# Altium footprint library INDUCTORS.PCBLIB: 54 footprints (part 1 of 4)
Each footprint in its own frame and in the unit in brackets; x right, y up, seen from the top. Pads: shape width x height; smd on the part's side, far side on the other; paste and mask are expansions set on the pad; w line width, h text height; cw(c..) or ccw(c..) is an arc to the next point about the centre after c.
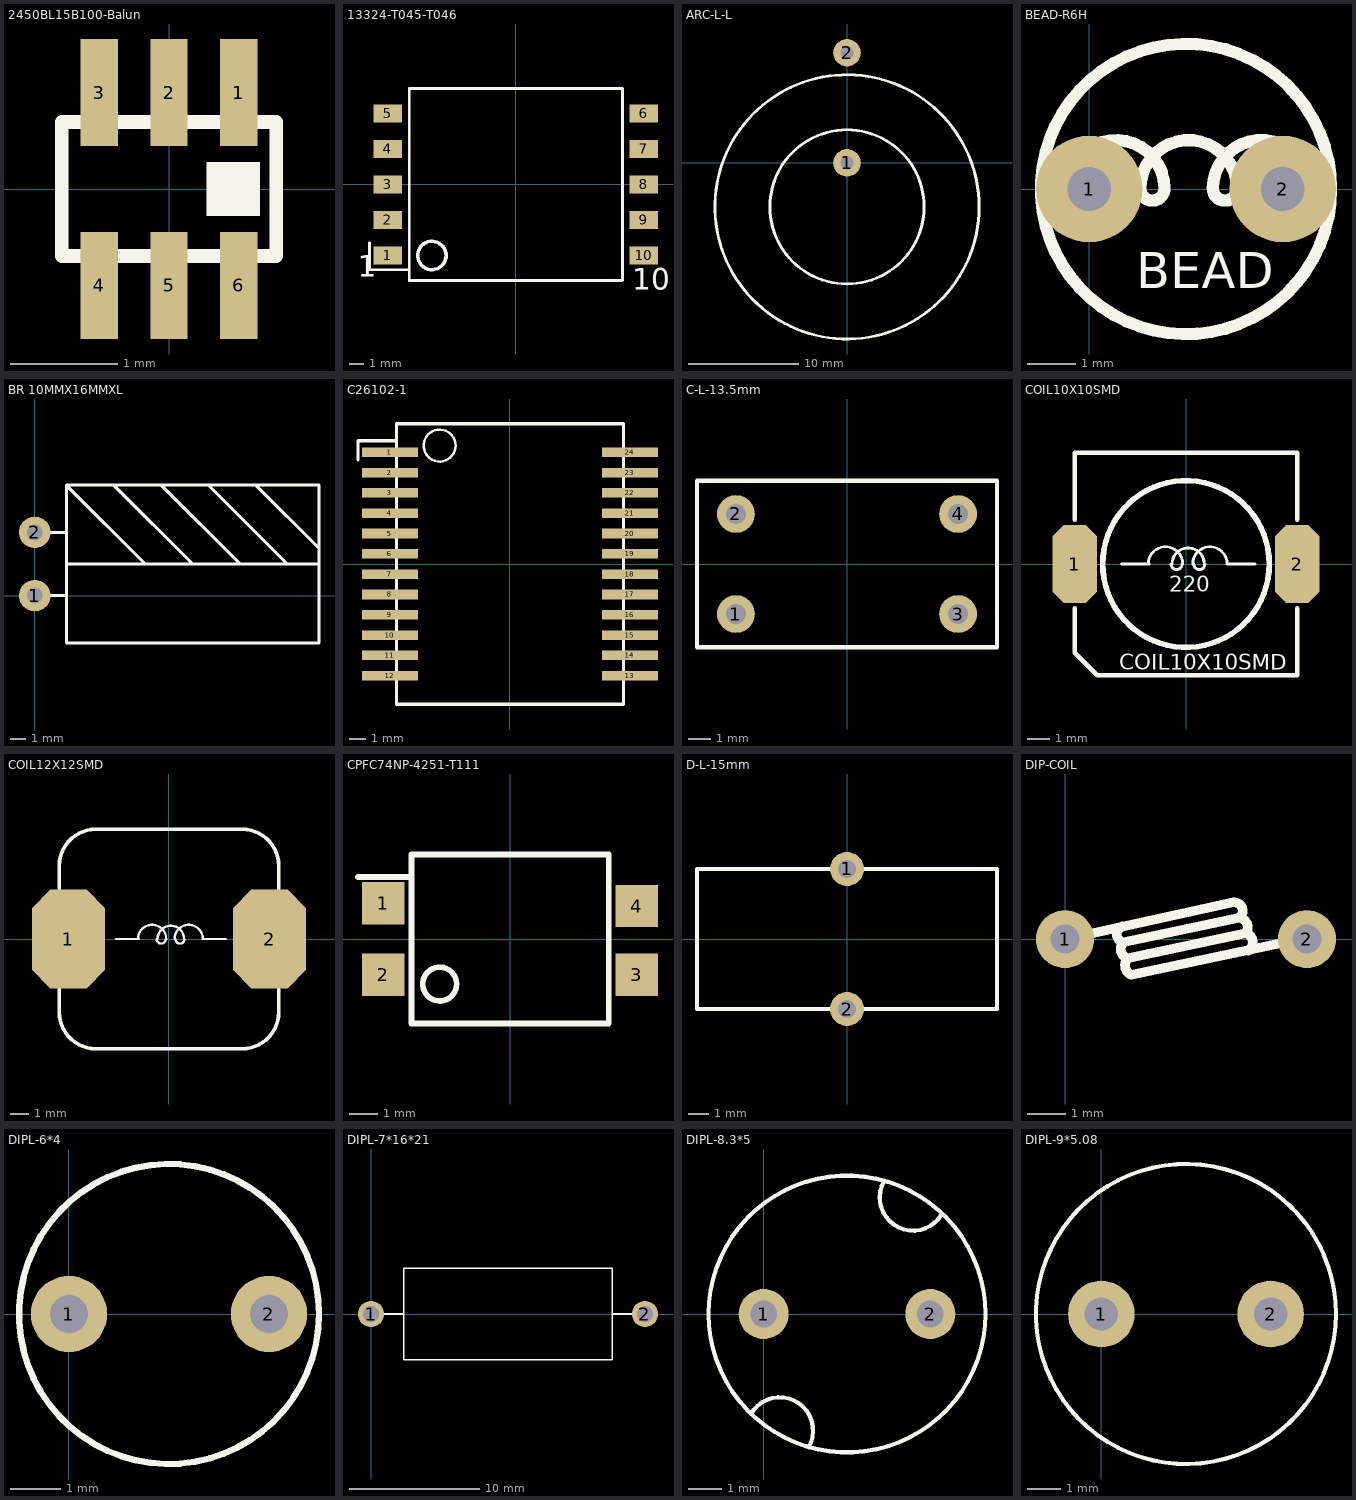
[diagram p0: the footprints below, top view; thin cyan lines are the x and y axes]

## 2450BL15B100-Balun [mm] "2450BL15B100-Balun"
pads (6):
  rect 0.35x1 smd: 1(0.65,0.9) 2(0,0.9) 3(-0.65,0.9) 4(-0.65,-0.9) 5(0,-0.9) 6(0.65,-0.9)
TopOverlay:
  rectangle: 0.35,-0.25 0.85,0.25
  lines w0.127: -1,-0.625 1,-0.625 1,0.625 -1,0.625 -1,-0.625

## 13324-T045-T046 [mm]
pads (10):
  rect 2x1.27 smd: 1(-9,-5) 2(-9,-2.5) 3(-9,0) 4(-9,2.5) 5(-9,5) 6(9,5) 7(9,2.5) 8(9,0) 9(9,-2.5) 10(9,-5)
TopOverlay:
  circle w0.254: c-5.9,-5 r1
  lines w0.2: -10.3,-4.1 -10.3,-6 -7.5,-6 ; -7.5,-6.75 -7.5,6.75 7.5,6.75 7.5,-6.75 -7.5,-6.75
  text "1" at -11.1,-6.5 h1.52
  text "10" at 8.2,-7.4 h1.52

## ARC-L-L [mm]
pads (2):
  round 2.5 hole 1.2: 1(0,0) 2(0,10)
TopOverlay:
  circle w0.254: c0,-4 r12
  circle w0.254: c0,-4 r7

## BEAD-R6H [mm]
pads (2):
  round 2.2 hole 0.9: 1(0,0) 2(4,0)
TopOverlay:
  circle w0.25: c2,0 r3
  lines w0.254: -0.041,0.814 cw(c0.555,0.011) 1.555,0.011 cw(c1.305,0.011) 1.055,0.011 cw(c2.055,0.011) 3.055,0.011 cw(c2.805,0.011) 2.555,0.011 cw(c3.555,0.011) 3.957,0.926
  text "BEAD" at 0.975,-2.05 h0.75

## BR 10MMX16MMXL [mm]
pads (2):
  round 2 hole 1: 1(0,0) 2(0,4)
TopOverlay:
  lines w0.203: 1,0 2,0 ; 1,4 2,4 ; 5,7 10,2 ; 7,2 2,7 ; 11,7 16,2 ; 13,2 8,7 ; 14,7 18,3 ; 18,2 2,2 ; 2,2 2,-3 18,-3 18,7 2,7 ; 2,2 2,7 ; 8,7 8,7

## C26102-1 [mm] "C26102-1"
pads (24):
  rect 3.5x0.6 smd: 1(-7.5,6.985) 2(-7.5,5.715) 3(-7.5,4.445) 4(-7.5,3.175) 5(-7.5,1.905) 6(-7.5,0.635) 7(-7.5,-0.635) 8(-7.5,-1.905) 9(-7.5,-3.175) 10(-7.5,-4.445) 11(-7.5,-5.715) 12(-7.5,-6.985) 13(7.5,-6.985) 14(7.5,-5.715) 15(7.5,-4.445) 16(7.5,-3.175) 17(7.5,-1.905) 18(7.5,-0.635) 19(7.5,0.635) 20(7.5,1.905) 21(7.5,3.175) 22(7.5,4.445) 23(7.5,5.715) 24(7.5,6.985)
TopOverlay:
  circle w0.15: c-4.4,7.4 r1
  lines w0.2: -9.5,6.5 -9.5,7.7 -7.1,7.7 ; -7.1,-8.765 7.1,-8.765 7.1,8.765 -7.1,8.765 -7.1,-8.765

## C-L-13.5mm [mm] "C-L-9.5mm"
pads (4):
  round 1.7 hole 0.9: 1(-5,-2.25) 2(-5,2.25) 3(5,-2.25) 4(5,2.25)
TopOverlay:
  lines w0.2: -6.75,-3.75 6.75,-3.75 6.75,3.75 -6.75,3.75 -6.75,-3.75

## COIL10X10SMD [mm]
pads (2):
  oct 2x3.5 smd: 1(-5,0) 2(5,0)
TopOverlay:
  circle w0.25: c0,0 r3.75
  lines w0.127: -2.9,0 -1.65,0 ; -1.7,0 cw(c-0.925,0) -0.15,0 ; -0.675,0 ccw(c-0.425,0) -0.175,0 ; -0.625,0 cw(c0.1,0) 0.825,0 ; 0.3,0 cw(c1.075,0) 1.85,0 3.1,0 ; 0.35,0 ccw(c0.6,0) 0.85,0
  lines w0.2: -5,-2 -5,-4 -4,-5 5,-5 5,-2 ; -5,2 -5,5 5,5 5,2
  text "220" at -0.75,-1.25 h0.7
  text "COIL10X10SMD" at -3,-4.75 h0.7

## COIL12X12SMD [mm]
pads (2):
  oct 4x5.4 smd: 1(-5.5,0) 2(5.5,0)
TopOverlay:
  lines w0.127: -2.9,0 -1.65,0 ; -1.7,0 cw(c-0.925,0) -0.15,0 ; -0.675,0 ccw(c-0.425,0) -0.175,0 ; -0.625,0 cw(c0.1,0) 0.825,0 ; 0.3,0 cw(c1.075,0) 1.85,0 3.1,0 ; 0.35,0 ccw(c0.6,0) 0.85,0
  lines w0.2: -6,-2.75 -6,-4 ccw(c-4,-4) -4,-6 4,-6 ccw(c4,-4) 6,-4 6,-2.75 ; -6,2.75 -6,4 cw(c-4,4) -4,6 4,6 cw(c4,4) 6,4 6,2.75

## CPFC74NP-4251-T111 [mm] "CPFC74NP-4251-T111"
pads (4):
  rect 1.5x1.5 smd: 1(-4.5,1.27) 2(-4.5,-1.27) 3(4.5,-1.27) 4(4.5,1.17)
TopOverlay:
  circle w0.2: c-2.5,-1.6 r0.6
  lines w0.2: -5.4,2.2 -3.5,2.2 ; -3.5,-3 3.5,-3 3.5,3 -3.5,3 -3.5,-3

## D-L-15mm [mm] "D-L-15mm"
pads (2):
  round 1.7 hole 0.9: 1(0,3.5) 2(0,-3.5)
TopOverlay:
  lines w0.2: -7.5,-3.5 7.5,-3.5 7.5,3.5 -7.5,3.5 -7.5,-3.5

## DIP-COIL [mil]
pads (2):
  round 60 hole 30: 1(0,0) 2(250,0)
TopOverlay:
  lines w10: 0,0 174,38 cw(c174.74,29.16) 180.18,22.17 ; 59,13 ccw(c62,5) 60.39,-3.39 ; 189.27,-11.74 ccw(c184.2,-3.3) 186.79,6.2 ; 251.75,2.07 68.75,-36.93 cw(c72.77,-26.87) 64.62,-19.73 ; 60.39,-3.39 ccw(c67.45,-10.28) 64.62,-19.73 ; 60.39,-3.39 180.18,22.17 ; 64.62,-19.73 186.79,6.2 ; 180.18,22.17 cw(c178.77,12.23) 186.79,6.2

## DIPL-6*4 [mil]
pads (2):
  round 60 hole 30: 1(0,0) 2(157.48,0)
TopOverlay:
  circle w5: c78.74,0 r118.11

## DIPL-7*16*21 [mm]
pads (2):
  round 2 hole 1.2: 1(0,0) 2(21,0)
TopOverlay:
  lines w0.127: 0,0 2.5,0 ; 18.5,0 21,0 ; 2.5,-3.5 18.5,-3.5 18.5,3.5 2.5,3.5 2.5,-3.5

## DIPL-8.3*5 [mm]
pads (2):
  round 1.5 hole 0.8: 1(0,0) 2(5,0)
TopOverlay:
  circle w0.127: c2.5,0 r4.15
  lines w0.127: -0.383,-2.998 cw(c0.483,-3.498) 1.349,-3.998 ; 3.616,3.999 ccw(c4.482,3.499) 5.348,2.999

## DIPL-9*5.08 [mm]
pads (2):
  round 2 hole 1: 1(0,0) 2(5.08,0)
TopOverlay:
  circle w0.127: c2.54,0 r4.5